# Altium schematic symbol library LittleFOC-pcb-0.0.2.SchLib: 14 symbols
Pins are listed as number, name and electrical type; pins without a type are passive.

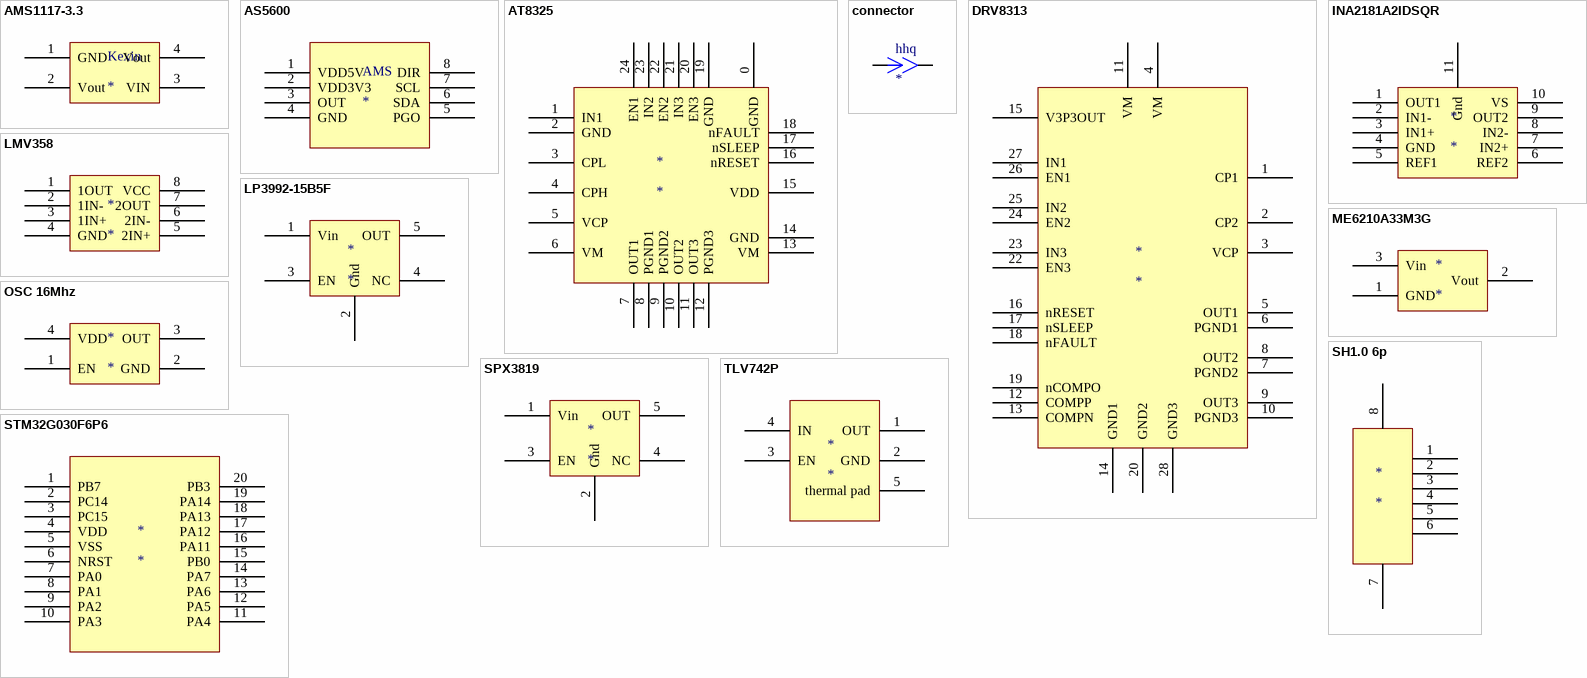
[diagram p0: symbols AMS1117-3.3 to TLV742P]

## AMS1117-3.3
designator Kexin
footprint SOT-223
pins: 1 GND, 2 Vout, 3 VIN, 4 Vout

## AS5600
designator AMS
footprint SOIC8
pins: 1 VDD5V, 2 VDD3V3, 3 OUT, 4 GND, 5 PGO, 6 SDA, 7 SCL, 8 DIR

## AT8325
designator *
footprint QFN24
pins: 0 GND, 1 IN1, 2 GND, 3 CPL, 4 CPH, 5 VCP, 6 VM, 7 OUT1, 8 PGND1, 9 PGND2, 10 OUT2, 11 OUT3, 12 PGND3, 13 VM, 14 GND, 15 VDD, 16 nRESET, 17 nSLEEP, 18 nFAULT, 19 GND, 20 EN3, 21 IN3, 22 EN2, 23 IN2, 24 EN1

## connector
designator hhq
footprint 0603R
footprint connector
pins: 1  , 2

## DRV8313
designator *
footprint TSSOP28
pins: 1 CP1, 2 CP2, 3 VCP, 4 VM, 5 OUT1, 6 PGND1, 7 PGND2, 8 OUT2, 9 OUT3, 10 PGND3, 11 VM, 12 COMPP, 13 COMPN, 14 GND1, 15 V3P3OUT, 16 nRESET, 17 nSLEEP, 18 nFAULT, 19 nCOMPO, 20 GND2, 22 EN3, 23 IN3, 24 EN2, 25 IN2, 26 EN1, 27 IN1, 28 GND3

## INA2181A2IDSQR
designator *
footprint WSON10
pins: 1 OUT1, 2 IN1-, 3 IN1+, 4 GND, 5 REF1, 6 REF2, 7 IN2+, 8 IN2-, 9 OUT2, 10 VS, 11 Gnd

## LMV358
designator *
footprint SOP8
pins: 1 1OUT, 2 1IN-, 3 1IN+, 4 GND, 5 2IN+, 6 2IN-, 7 2OUT, 8 VCC

## LP3992-15B5F
designator *
footprint SOT23-5
pins: 1 Vin, 2 Gnd, 3 EN, 4 NC, 5 OUT

## ME6210A33M3G
designator *
footprint SOT-23
pins: 1 GND, 2 Vout, 3 Vin

## OSC 16Mhz
designator *
footprint SMD3225
pins: 1 EN, 2 GND, 3 OUT, 4 VDD

## SH1.0 6p
designator *
footprint SH1.0 6p
pins: 1, 2, 3, 4, 5, 6, 7, 8

## SPX3819
designator *
footprint SOT23-5
pins: 1 Vin, 2 Gnd, 3 EN, 4 NC, 5 OUT

## STM32G030F6P6
designator *
footprint TSSOP20
pins: 1 PB7, 2 PC14, 3 PC15, 4 VDD, 5 VSS, 6 NRST, 7 PA0, 8 PA1, 9 PA2, 10 PA3, 11 PA4, 12 PA5, 13 PA6, 14 PA7, 15 PB0, 16 PA11, 17 PA12, 18 PA13, 19 PA14, 20 PB3

## TLV742P
designator *
footprint X2SON-4
pins: 1 OUT, 2 GND, 3 EN, 4 IN, 5 thermal pad